# Altium footprint library WL-SMTW.PcbLib: 9 footprints
Each footprint in its own frame and in the unit in brackets; x right, y up, seen from the top. Pads: shape width x height; smd on the part's side, far side on the other; paste and mask are expansions set on the pad; w line width, h text height; cw(c..) or ccw(c..) is an arc to the next point about the centre after c.
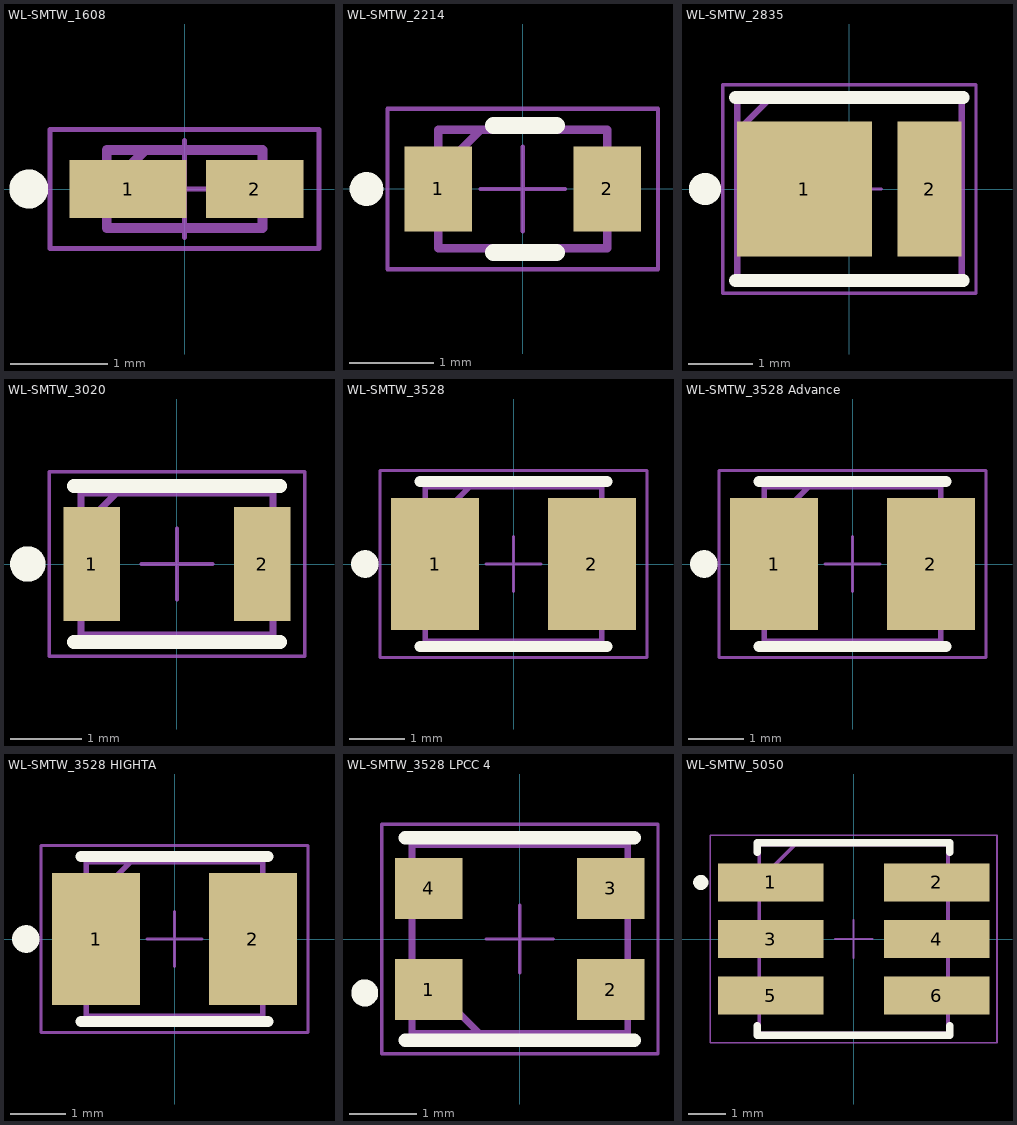
[diagram p0: the footprints below, top view; thin cyan lines are the x and y axes]

## WL-SMTW_1608 [mm] "SMD Mono-color TOP LED, body 1.60 x 0.80 mm"
height 0.55
pads (2):
  rect 1.2x0.6 smd: 1(-0.58,0)
  rect 1x0.6 smd: 2(0.72,0)
Top Overlay:
  circle w0.2: c-1.6,0 r0.1
Top Component Outline:
  lines w0.1: -0.8,0 -0.4,0.4 ; -0.8,-0.4 0.8,-0.4 0.8,0.4 -0.8,0.4 -0.8,-0.4
Top Courtyard:
  lines w0.05: -1.38,-0.61 -1.38,0.61 1.38,0.61 1.38,-0.61 -1.38,-0.61
Top Component Center:
  lines w0.05: -0.5,0 0.5,0 ; 0,-0.5 0,0.5
Top Designator (Mech19):
  text ".Designator" at -2.499,-0.167 h0.5
3D body "150160xx73103.stp": height 0.55, standoff 0, extent -0.8,-0.4 0.8,0.4

## WL-SMTW_2214 [mm] "SMD Mono-color TOP LED, body 2x1.4mm"
height 1.31
pads (2):
  rect 0.8x1 smd: 1(-1,0) 2(1,0)
Top Overlay:
  circle w0.2: c-1.85,0 r0.1
  lines w0.2: -0.35,-0.75 0.4,-0.75 ; -0.35,0.75 0.4,0.75
Top Component Outline:
  lines w0.1: -1,0.2 -0.5,0.7 ; -1,-0.7 1,-0.7 1,0.7 -1,0.7 -1,-0.7
Top Courtyard:
  lines w0.05: -1.6,-0.95 -1.6,0.95 1.6,0.95 1.6,-0.95 -1.6,-0.95
Top Component Center:
  lines w0.05: -0.5,0 0.5,0 ; 0,-0.5 0,0.5
Top Designator (Mech19):
  text ".Designator" at -2.499,-0.167 h0.5
3D body "150224xx73100.stp": height 1.3, standoff -0.01, extent -1.15,-0.7 1.15,0.7

## WL-SMTW_2835 [mm] "SMT Mono-color TOP LED Waterclear, body 3.5x2.8mm"
height 0.8
pads (2):
  rect 2.1x2.1 smd: 1(-0.7,0)
  rect 1x2.1 smd: 2(1.25,0)
Top Overlay:
  circle w0.25: c-2.25,0 r0.125
  lines w0.2: -1.775,-1.425 1.775,-1.425 ; -1.775,1.425 1.775,1.425
Top Component Outline:
  lines w0.1: -1.75,0.9 -1.25,1.4 ; -1.75,-1.4 -1.75,1.4 1.75,1.4 1.75,-1.4 -1.75,-1.4
Top Courtyard:
  lines w0.05: -1.975,-1.625 1.975,-1.625 1.975,1.625 -1.975,1.625 -1.975,-1.625
Top Component Center:
  lines w0.05: -0.5,0 0.5,0 ; 0,-0.5 0,0.5
Top Designator (Mech19):
  text ".Designator" at -4.998,-0.333 h1
3D body "150283xxx.stp": height 0.8, standoff 0, extent -1.75,-1.4 1.75,1.4

## WL-SMTW_3020 [mm] "SMT Mono-color TOP LED Waterclear, body 3x2mm"
height 1.3
pads (2):
  rect 0.8x1.6 smd: 1(-1.2,0) 2(1.2,0)
Top Overlay:
  circle w0.25: c-2.1,0 r0.125
  lines w0.2: -1.45,-1.1 1.45,-1.1 ; -1.45,1.1 1.45,1.1
Top Component Outline:
  lines w0.1: -1.35,0.5 -0.85,1 ; -1.35,-1 1.35,-1 1.35,1 -1.35,1 -1.35,-1
Top Courtyard:
  lines w0.05: -1.8,-1.3 1.8,-1.3 1.8,1.3 -1.8,1.3 -1.8,-1.3
Top Component Center:
  lines w0.05: -0.5,0 0.5,0 ; 0,-0.5 0,0.5
Top Designator (Mech19):
  text ".Designator" at -3.999,-0.267 h0.8
3D body "150302xx73100.stp": height 1.29, standoff -0.01, extent -1.5,-1 1.5,1

## WL-SMTW_3528 [mm] "SMD Mono-color TOP LED, body 3.2x2.8mm"
height 1.9
pads (2):
  rect 1.6x2.4 smd: 1(-1.425,0) 2(1.425,0)
Top Overlay:
  circle w0.25: c-2.7,0 r0.125
  lines w0.2: -1.7,-1.5 1.7,-1.5 ; -1.7,1.5 1.7,1.5
Top Component Outline:
  lines w0.1: -1.6,0.6 -0.8,1.4 ; -1.6,-1.4 1.6,-1.4 1.6,1.4 -1.6,1.4 -1.6,-1.4
Top Courtyard:
  lines w0.05: -2.425,-1.7 2.425,-1.7 2.425,1.7 -2.425,1.7 -2.425,-1.7
Top Component Center:
  lines w0.05: -0.5,0 0.5,0 ; 0,-0.5 0,0.5
Top Designator (Mech19):
  text ".Designator" at -4.998,-0.333 h1
3D body "150141xxx.stp": height 1.9, standoff 0, extent -1.75,-1.4 1.75,1.4

## WL-SMTW_3528 Advance [mm] "SMD Mono-color TOP LED, body 3.2x2.8mm"
height 1.9
pads (2):
  rect 1.6x2.4 smd: 1(-1.425,0) 2(1.425,0)
Top Overlay:
  circle w0.25: c-2.7,0 r0.125
  lines w0.2: -1.7,-1.5 1.7,-1.5 ; -1.7,1.5 1.7,1.5
Top Component Outline:
  lines w0.1: -1.6,0.6 -0.8,1.4 ; -1.6,-1.4 1.6,-1.4 1.6,1.4 -1.6,1.4 -1.6,-1.4
Top Courtyard:
  lines w0.05: -2.425,-1.7 2.425,-1.7 2.425,1.7 -2.425,1.7 -2.425,-1.7
Top Component Center:
  lines w0.05: -0.5,0 0.5,0 ; 0,-0.5 0,0.5
Top Designator (Mech19):
  text ".Designator" at -4.998,-0.333 h1
3D body "150141xxx73113.stp": height 1.9, standoff 0, extent -1.75,-1.4 1.75,1.4

## WL-SMTW_3528 HIGHTA [mm] "SMD Mono-color TOP LED, body 3.50 x 2.80 mm"
height 1.85
pads (2):
  rect 1.6x2.4 smd: 1(-1.425,0) 2(1.425,0)
Top Overlay:
  circle w0.25: c-2.7,0 r0.125
  lines w0.2: -1.7,-1.5 1.7,-1.5 ; -1.7,1.5 1.7,1.5
Top Component Outline:
  lines w0.1: -1.6,0.6 -0.8,1.4 ; -1.6,-1.4 1.6,-1.4 1.6,1.4 -1.6,1.4 -1.6,-1.4
Top Courtyard:
  lines w0.05: -2.425,-1.7 2.425,-1.7 2.425,1.7 -2.425,1.7 -2.425,-1.7
Top Component Center:
  lines w0.05: -0.5,0 0.5,0 ; 0,-0.5 0,0.5
Top Designator (Mech19):
  text ".Designator" at -4.998,-0.333 h1
3D body "150141xx73103.stp": height 1.9, standoff 0, extent -1.75,-1.4 1.75,1.4

## WL-SMTW_3528 LPCC 4 [mm] "SMD Mono-color TOP LED, body 3.5x2.8mm"
height 1.85
pads (4):
  rect 1x0.9 smd: 1(-1.35,-0.75) 2(1.35,-0.75) 3(1.35,0.75) 4(-1.35,0.75)
Top Overlay:
  circle w0.2: c-2.3,-0.8 r0.1
  lines w0.2: -1.7,-1.5 1.7,-1.5 ; -1.7,1.5 1.7,1.5
Top Component Outline:
  lines w0.1: -1.6,-0.4 -0.6,-1.4 ; -1.6,-1.4 -1.6,1.4 1.6,1.4 1.6,-1.4 -1.6,-1.4
Top Courtyard:
  lines w0.05: -2.05,-1.7 2.05,-1.7 2.05,1.7 -2.05,1.7 -2.05,-1.7
Top Component Center:
  lines w0.05: -0.5,0 0.5,0 ; 0,-0.5 0,0.5
Top Designator (Mech19):
  text ".Designator" at -4.998,-0.333 h1
3D body "150141xxx73130.stp": height 1.86, standoff 0, extent -1.75,-1.4 1.75,1.4

## WL-SMTW_5050 [mm] "SMT Mono-color TOP LED Waterclear, body 5x5mm"
height 1.6
pads (6):
  rect 2.8x1 smd: 1(-2.2,1.5) 2(2.2,1.5) 3(-2.2,0) 4(2.2,0) 5(-2.2,-1.5) 6(2.2,-1.5)
Top Overlay:
  circle w0.2: c-4.05,1.5 r0.1
  lines w0.2: -2.55,-2.3 -2.55,-2.55 2.55,-2.55 2.55,-2.3 ; -2.55,2.3 -2.55,2.55 2.55,2.55 2.55,2.3
Top Component Outline:
  lines w0.1: -2.5,1.55 -1.55,2.5 ; -2.5,-2.5 2.5,-2.5 2.5,2.5 -2.5,2.5 -2.5,-2.5
Top Courtyard:
  lines w0.05: -3.8,-2.75 3.8,-2.75 3.8,2.75 -3.8,2.75 -3.8,-2.75
Top Component Center:
  lines w0.05: -0.5,0 0.5,0 ; 0,-0.5 0,0.5
Top Designator (Mech19):
  text ".Designator" at -7.498,-0.5 h1.5
3D body "150505xx73300.stp": height 1.6, standoff 0, extent -2.7,-2.5 2.7,2.5